# Altium schematic symbol library Ferrite.SchLib: 2 symbols
Pins are listed as number, name and electrical type; pins without a type are passive.

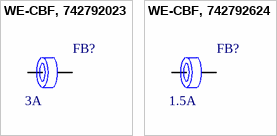
[diagram p0: symbols WE-CBF, 742792023 to WE-CBF, 742792624]

## WE-CBF, 742792023
designator FB?, comment RatedCurrent: 3A  (hidden comment: 742792023)
Ferrite Bead 120ohm 0805 3A; Manufacturer: Wurth Elektronik; Value: 120; ComponentLink1Description: Manufacturer; ComponentLink1URL: https://www.we-online.com/catalog/en/WE-CBF/?sq=742792023#742792023; ComponentLink2Description: Datasheet; ComponentLink2URL: https://www.we-online.com/catalog/datasheet/742792023.pdf; Manufacturer Part Number: 742792023; Supplier 2: JLCPCB; Supplier Part Number 2: C1015; Supplier 1: Farnell; Supplier Part Number 1: 1635732; Supplier Footprint 2: 0805
footprint WE-CBF_0805_High Current
pins: 1, 2

## WE-CBF, 742792624
designator FB?, comment RatedCurrent: 1.5A  (hidden comment: 742792624)
Ferrite Bead 180ohm 0603 1.5A; Manufacturer: Wurth Elektronik; Value: 180; ComponentLink1Description: Manufacturer; ComponentLink1URL: http://www.we-online.de; ComponentLink2Description: Datasheet; ComponentLink2URL: http://katalog.we-online.de/pbs/datasheet/742792624.pdf; Manufacturer Part Number: 742792624; Supplier 1: Farnell; Supplier Part Number 1: 1800355
footprint WE-CBF_0603_High Current
pins: 1, 2